# Altium schematic symbol library RES_SMD.SchLib: 9 symbols
Pins are listed as number, name and electrical type; pins without a type are passive.

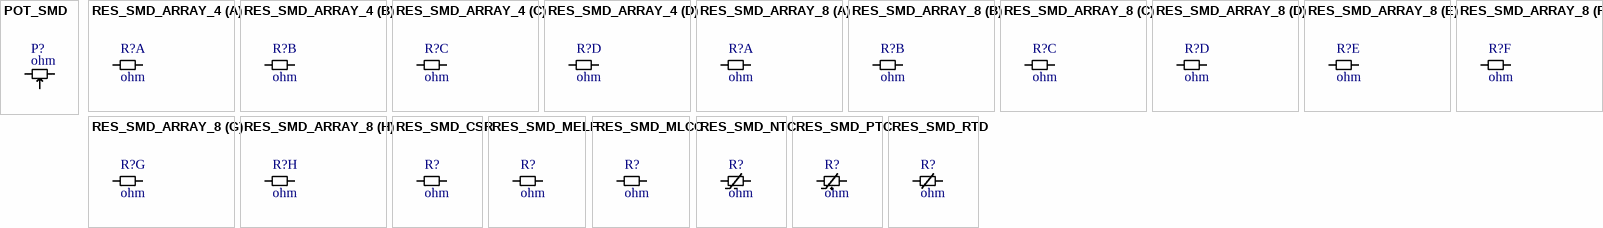
[diagram p0: symbols POT_SMD to RES_SMD_RTD]

## POT_SMD
designator P?, comment ohm
Potentiometer; Value: ohm
footprint POTS_3MM (POT SMD, 3.0X3.0mm, Trimming PVG3A PVZ3A)
footprint POTS_5MM (POT SMD, 5.0X5.0mm, Trimming PVG5H)
footprint POTS_3214W (POT SMD, 4.0X5.0mm, Trimming SM-42/43W 3214W)
footprint POTS_3314G (POT SMD, 5.0X5.0mm, Trimming, 3314G)
footprint POTS_V10MM (POT, TRIM, V-10 10mm SMD)
footprint Rtr SMD3L
footprint Rtr SMD3N
pins: 1, 2, 3

## RES_SMD_ARRAY_4
designator R?, comment ohm
Value: ohm
footprint RA0805(4D02)L (Chip Array, Flat, 8-Leads, Pitch 0.50mm,  Body 2.00x1.00mm,  IPC High Density)
footprint RA0805(4D02)M (Chip Array, Flat, 8-Leads, Pitch 0.50mm,  Body 2.00x1.00mm,  IPC Medium Density)
footprint RA0805(4D02)N (Chip Array, Flat, 8-Leads, Pitch 0.50mm,  Body 2.00x1.00mm,  IPC Medium Density)
footprint RA1206(4x0603)
footprint RESNET 0804-8 CONCAVE (4 resistor 2.0x1.0mm, 0.5mm high)
footprint RESNET 0804-8 CONVEX (4 resistor 2.0x1.0mm, 0.65mm high)
footprint RESNET 1206-8 CONCAVE (4 resistor 3.20x1.60mm, 0.7mm high)
footprint RESNET 1206-8 CONVEX (4 resistor 3.20x1.60mm, 0.7mm high)
part A pins: 1, 8
part B pins: 2, 7
part C pins: 3, 6
part D pins: 4, 5

## RES_SMD_ARRAY_8
designator R?, comment ohm
Value: ohm
footprint RESNET 1506-16 CONVEX (Array Chip Resistor, 16 leads, 8 resistors, Body 3.8x1.6mm Height 0.55mm)
footprint RESNET 1606-16 CONVEX (Array Chip Resistor, 16 leads, 8 resistors)
footprint RESNET 2506-16 CONCAVE (8 resistor 6.40x1.60mm, 0.7mm high)
part A pins: 1, 16
part B pins: 2, 15
part C pins: 3, 14
part D pins: 4, 13
part E pins: 5, 12
part F pins: 6, 11
part G pins: 7, 10
part H pins: 8, 9

## RES_SMD_CSR
designator R?, comment ohm
Value: ohm
footprint STACKPOLE CSR0402 (Chip Resistor, 2-Leads, Body 1.0x0.5mm, IPC Medium Density)
footprint STACKPOLE CSR0603 (Chip Resistor, 2-Leads, Body 1.60x0.80mm, IPC Medium Density)
footprint STACKPOLE CSR0805 (Chip Resistor, 2-Leads, Body 2.00x1.25mm, IPC Medium Density)
footprint STACKPOLE CSR1206 (Chip Resistor, 2-Leads, Body 3.13x1.55mm, IPC Medium Density)
footprint STACKPOLE CSR1210 (Chip Resistor, 2-Leads, Body 3.1x2.6mm, IPC Medium Density)
footprint STACKPOLE CSR2010 (Chip Resistor, 2-Leads, Body 5.00x2.54mm, IPC Medium Density)
footprint STACKPOLE CSR2512 (Chip Resistor, 2-Leads, Body 6.40x3.20mm, IPC Medium Density)
footprint STACKPOLE CSRN2010 (Chip Resistor, 2-Leads, Body 5.00x2.54mm, IPC Medium Density)
footprint STACKPOLE CSRN2512 (Chip Resistor, 2-Leads, Body 6.40x3.20mm, IPC Medium Density)
pins: 1, 2

## RES_SMD_MELF
designator R?, comment ohm
Value: ohm
footprint R Melf 0102
footprint R Melf 0204
footprint R Melf 0207 (Metal Electrode Face (MELF) Diode; Body 5 x 2.5 mm (LxDia))
pins: 1, 2

## RES_SMD_MLCC
designator R?, comment ohm
Value: ohm
footprint RES 0201_0603 (Chip Resistor, 2-Leads, Body 0.60x0.30mm, IPC Medium Density)
footprint RES 0402_1005 (Chip Resistor, 2-Leads, Body 1.0x0.5mm, IPC Medium Density)
footprint RES 0402_1005 RF (Chip Resistor, 2-Leads, Body 1.0x0.5mm, IPC High Density)
footprint RES 0603_1608 (Chip Resistor, 2-Leads, Body 1.60x0.80mm, IPC Medium Density)
footprint RES 0603_1608 RF (Chip Resistor, 2-Leads, Body 1.60x0.80mm, IPC High Density)
footprint RES 0805_2012 (Chip Resistor, 2-Leads, Body 2.00x1.25mm, IPC Medium Density)
footprint RES 0805_2012 RF (Chip Resistor, 2-Leads, Body 2.00x1.25mm, IPC High Density)
footprint RES 1206_3216 (Chip Resistor, 2-Leads, Body 3.13x1.55mm, IPC Medium Density)
footprint RES 1206_3216 RF (Chip Resistor, 2-Leads, Body 3.13x1.55mm, IPC High Density)
footprint RES 1210_3225 (Chip Resistor, 2-Leads, Body 3.1x2.6mm, IPC Medium Density)
footprint RES 2512_6432 (Chip Resistor, 2-Leads, Body 6.30x3.15mm, IPC Medium Density)
footprint VISHAY WSHP2818 (Chip Resistor, 2-Leads, Body 7.10x4.60mm, IPC Medium Density)
pins: 1, 2

## RES_SMD_NTC
designator R?, comment ohm
Value: ohm
footprint NTC 0201_0603 (Chip Thermisistor, 2-Leads, Body 0.60x0.30mm, IPC Medium Density)
footprint NTC 0402_1005 (Chip Thermistor, 2-Leads, Body 1.00x0.50mm, IPC Medium Density)
footprint NTC 0603_1608 (NTC Thermistor, 2-Leads, Body 1.60x0.80mm, IPC Medium Density)
footprint NTC 0805_2012 (Chip Thermistor, 2-Leads, Body 2.00x1.25mm, IPC Medium Density)
pins: 1, 2

## RES_SMD_PTC
designator R?, comment ohm
Value: ohm
footprint PTC 0402_1005 (Chip Thermistor, 2-Leads, Body 1.02x0.51mm, IPC Medium Density)
footprint PTC 0603_1608 (Chip Thermistor, 2-Leads, Body 1.60x0.80mm, IPC Medium Density)
pins: 1, 2

## RES_SMD_RTD
designator R?, comment ohm
Value: ohm
footprint RTD 0603_1608 (1 kOhms RTD Platinum ±0.3% ±3850ppm/°C -50°C ~ 150°C, 2-Leads, Body 1.70x0.90mm, IPC Medium Density)
footprint RTD 0805_2012 (1 kOhms RTD Platinum ±0.3% ±3850ppm/°C -50°C ~ 130°C, 2-Leads, Body 2.30x1.40mm, IPC Medium Density)
footprint RTD 1206_3216 (100 Ohms RTD Platinum ±0.3% ±3850ppm/°C -50°C ~ 130°C, 2-Leads, Body 3.20x1.60mm, IPC Medium Density)
pins: 1, 2